# EAGLE library part IFX91041EJV (library COM_ETH-V1)
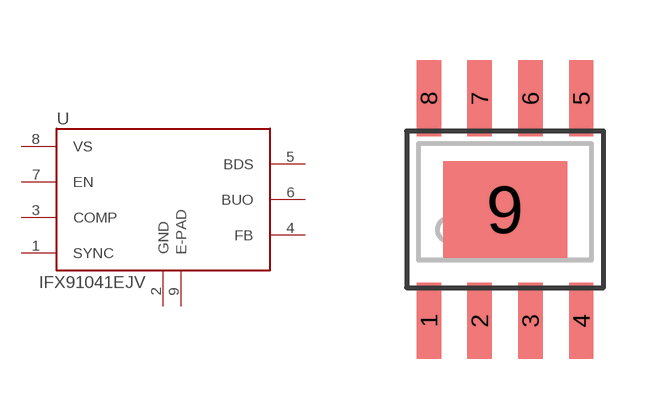
[diagram p6: symbol with the pads of PSOP-8; footprint PSOP-8]

Designator prefix U

## IFX91041EJV  [PSOP-8]
1  SYNC  pas
2  GND  pwr
3  COMP  pas
4  FB  in
5  BDS  pwr
6  BUO  pwr
7  EN  in
8  VS  pwr
9  E-PAD  pwr

## Footprint PSOP-8 (pad centres in mm)
smd 0.61 x 1.905: 1 -1.905,-2.781; 2 -0.635,-2.781; 3 0.635,-2.781; 4 1.905,-2.781; 5 1.905,2.781; 6 0.635,2.781; 7 -0.635,2.781; 8 -1.905,2.781
smd 3.099 x 2.413: 9 0,0